# EAGLE library part PIC18F2550-I/SP-2 (library mcu)
Microchip PIC Microcontrollers and other Devices Based on the following sources : Microchip Data Book, 1993 THE EMERGING WORLD STANDARD, 1995/1996 Microchip, Technical Library CD-ROM, June 1998 www.microchip.com Created by librarian@cadsoft.de
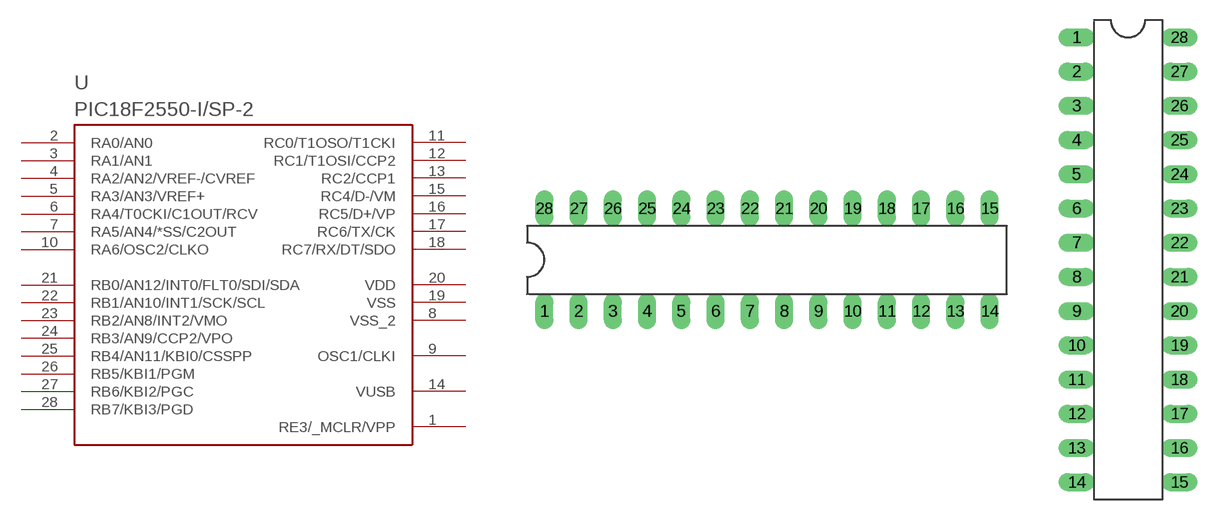
[diagram p5: symbol with the pads of DIL28-3; footprints DIL28-3, DIL28-3/V]

Designator prefix U

## PIC18F2550-I/SP-2  [DIL28-3]
1  RE3/_MCLR/VPP  pas
2  RA0/AN0  pas
3  RA1/AN1  pas
4  RA2/AN2/VREF-/CVREF  pas
5  RA3/AN3/VREF+  pas
6  RA4/T0CKI/C1OUT/RCV  pas
7  RA5/AN4/*SS/C2OUT  pas
8  VSS_2  pas
9  OSC1/CLKI  pas
10  RA6/OSC2/CLKO  pas
11  RC0/T1OSO/T1CKI  pas
12  RC1/T1OSI/CCP2  pas
13  RC2/CCP1  pas
14  VUSB  pas
15  RC4/D-/VM  pas
16  RC5/D+/VP  pas
17  RC6/TX/CK  pas
18  RC7/RX/DT/SDO  pas
19  VSS  pas
20  VDD  pas
21  RB0/AN12/INT0/FLT0/SDI/SDA  pas
22  RB1/AN10/INT1/SCK/SCL  pas
23  RB2/AN8/INT2/VMO  pas
24  RB3/AN9/CCP2/VPO  pas
25  RB4/AN11/KBI0/CSSPP  pas
26  RB5/KBI1/PGM  pas
27  RB6/KBI2/PGC  pas
28  RB7/KBI3/PGD  pas

## PIC18F2550-I/SP-2-V  [DIL28-3/V]
Pads as for DIL28-3

## Footprint DIL28-3 (pad centres in mm)
Dual In Line package type P
drill 0.813 long: 1 -16.51,-3.81; 2 -13.97,-3.81; 3 -11.43,-3.81; 4 -8.89,-3.81; 5 -6.35,-3.81; 6 -3.81,-3.81; 7 -1.27,-3.81; 8 1.27,-3.81; 9 3.81,-3.81; 10 6.35,-3.81; 11 8.89,-3.81; 12 11.43,-3.81; 13 13.97,-3.81; 14 16.51,-3.81; 15 16.51,3.81; 16 13.97,3.81; 17 11.43,3.81; 18 8.89,3.81; 19 6.35,3.81; 20 3.81,3.81; 21 1.27,3.81; 22 -1.27,3.81; 23 -3.81,3.81; 24 -6.35,3.81; 25 -8.89,3.81; 26 -11.43,3.81; 27 -13.97,3.81; 28 -16.51,3.81

## Footprint DIL28-3/V (pad centres in mm)
drill 0.813 long: 1 -3.81,16.51; 2 -3.81,13.97; 3 -3.81,11.43; 4 -3.81,8.89; 5 -3.81,6.35; 6 -3.81,3.81; 7 -3.81,1.27; 8 -3.81,-1.27; 9 -3.81,-3.81; 10 -3.81,-6.35; 11 -3.81,-8.89; 12 -3.81,-11.43; 13 -3.81,-13.97; 14 -3.81,-16.51; 15 3.81,-16.51; 16 3.81,-13.97; 17 3.81,-11.43; 18 3.81,-8.89; 19 3.81,-6.35; 20 3.81,-3.81; 21 3.81,-1.27; 22 3.81,1.27; 23 3.81,3.81; 24 3.81,6.35; 25 3.81,8.89; 26 3.81,11.43; 27 3.81,13.97; 28 3.81,16.51